# EAGLE library part CTS254_JOYSTICK (library custom)
TwoAxis,Ultra-miniature JoystickWithOptional MomentarySwitch
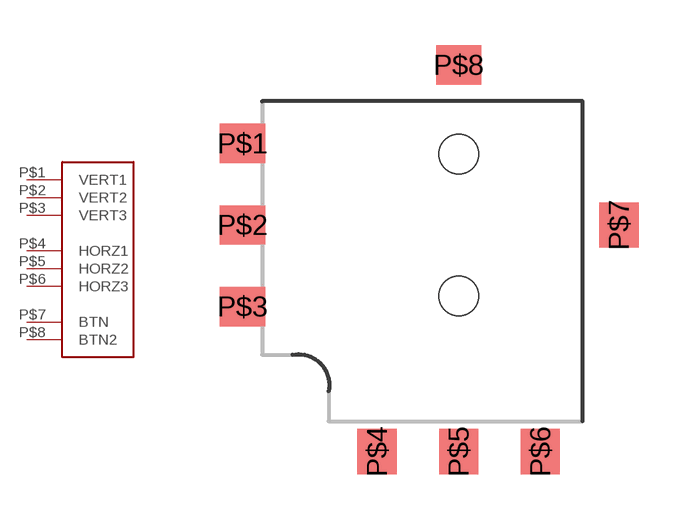
[diagram p10: symbol with the pads of 254SA103B50A; footprint 254SA103B50A]

Designator prefix -

## CTS254_JOYSTICKSM  [254SA103B50A]
P$1  VERT1  in
P$2  VERT2  out
P$3  VERT3  in
P$4  HORZ1  in
P$5  HORZ2  out
P$6  HORZ3
P$7  BTN  in
P$8  BTN2  out

## Footprint 254SA103B50A (pad centres in mm)
Digikey Part: 254TA103B50A-ND Manufacturer CTS Electrocomponents Series 254 Packaging Bulk Part Status Active Axis 2 Resistance (Ohms) 10k Power (Watts) 0.0125W Tolerance ±20% Adjustment Type Top Adjustment Rotation Angle 50° Mounting Type Surface Mount Size / Dimension Square - 0.425" L x 0.425" W x 0.366" H (10.80mm x 10.80mm x 9.30mm)
smd 1.5 x 1.3: P$1 -0.65,9.2; P$2 -0.65,6.5; P$3 -0.65,3.8; P$8 6.5,11.8
smd 1.3 x 1.5: P$4 3.8,-1; P$5 6.5,-1; P$6 9.2,-1; P$7 11.8,6.5
hole 1.3 at 6.5,8.85
hole 1.3 at 6.5,4.15